# Altium integrated library TI Interface Display.IntLib: 133 symbols (part 8 of 16)
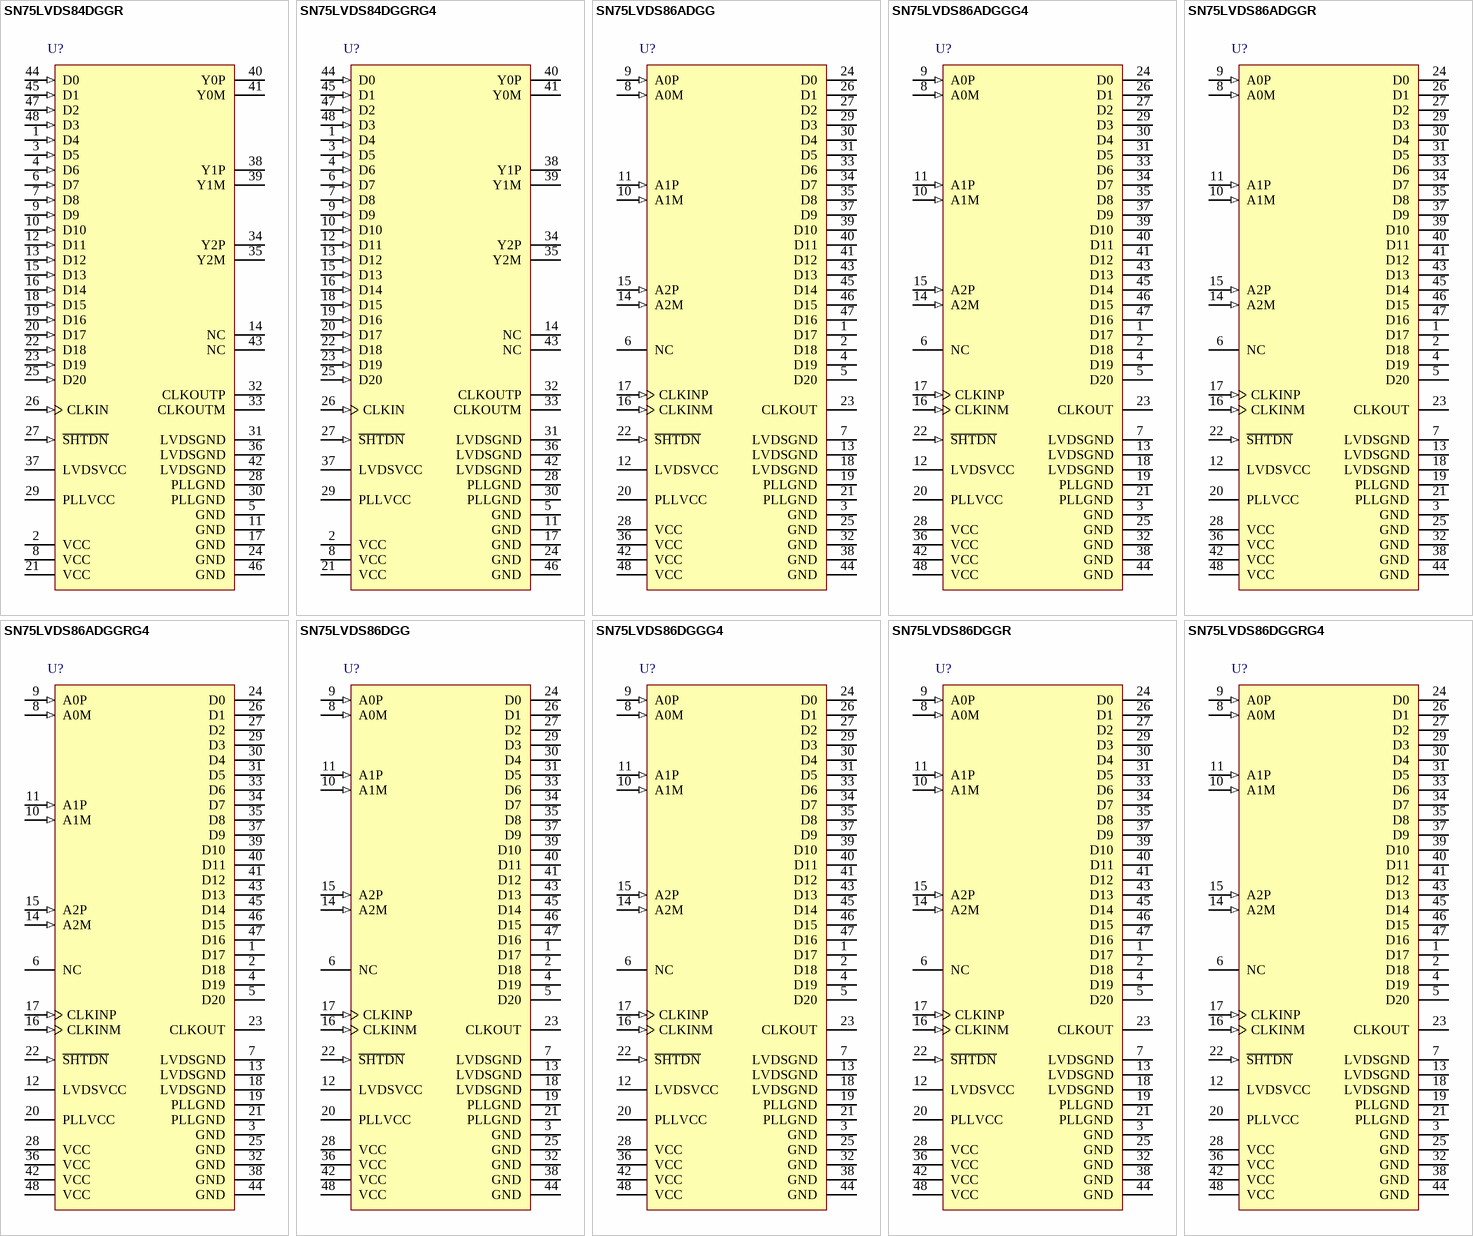
[diagram p21: symbols SN75LVDS84DGGR to SN75LVDS86DGGRG4]

## SN75LVDS84DGGR
designator U?
163 Mbps FlatLink™ Transmitter with 3 Transmitter Channels, 3.3 V, 0 to +70 degC, 48-pin TSSOP (DGG), Green (RoHS & no Sb/Br); Manufacturer: Texas Instruments; PartNumber: SN75LVDS84DGGR; Data Throughput(MB/s): 163; Driver (RL)(Ohms): 100; Driver tpd(ns): 14.2; Number of Parallel Inputs: 21; PLL Frequency(MHz): 31 - 68; Serial Data Transmitter Channels: 3; SubFamily: FlatLink (LVDS for LCD); Supply Voltage(s)(V): 3.3; Type of Line Circuit: LVDS; DatasheetVersion: SLLS270D; PackageVersion: revF, Dec-1997; PackageReference: DGG48; PackageDescription: 48-Pin Plastic Thin Shrink Small Outline Package 0.5 mm Pitch; Supplier 1: Digi-Key; Supplier Part Number 1: 296-6669-2-ND; Supplier 2: Mouser; Supplier Part Number 2: 595-SN75LVDS84DGGR; Eco-Plan: Green (RoHS & no Sb/Br); Mounting Technology: Surface Mount; Code_JEDEC: MO-153; ComponentLink1Description: Datasheet; ComponentLink1URL: http://www.ti.com/general/docs/lit/getliterature.tsp?genericPartNumber=SN75LVDS84&fileType=pdf; ComponentLink2Description: URL Link1; ComponentLink2URL: SamplesURL:http://www.ti.com/product/sn75lvds84#samples
footprint DGG48_N (TSSOP, 48-Leads, Body 12.5x6.1mm, Pitch 0.5mm, IPC Medium Density)
footprint DGG48_L (TSSOP, 48-Leads, Body 12.5x6.1mm, Pitch 0.5mm, IPC High Density)
footprint DGG48_M (TSSOP, 48-Leads, Body 12.5x6.1mm, Pitch 0.5mm, IPC Low Density)
pins: 1 D4 (in), 2 VCC (power), 3 D5 (in), 4 D6 (in), 5 GND (power), 6 D7 (in), 7 D8 (in), 8 VCC (power), 9 D9 (in), 10 D10 (in), 11 GND (power), 12 D11 (in), 13 D12 (in), 14 NC, 15 D13 (in), 16 D14 (in), 17 GND (power), 18 D15 (in), 19 D16 (in), 20 D17 (in), 21 VCC (power), 22 D18 (in), 23 D19 (in), 24 GND (power), 25 D20 (in), 26 CLKIN (in), 27 ~{SHTDN} (in), 28 PLLGND (power), 29 PLLVCC (power), 30 PLLGND (power), 31 LVDSGND (power), 32 CLKOUTP (hiz), 33 CLKOUTM (hiz), 34 Y2P (hiz), 35 Y2M (hiz), 36 LVDSGND (power), 37 LVDSVCC (power), 38 Y1P (hiz), 39 Y1M (hiz), 40 Y0P (hiz), 41 Y0M (hiz), 42 LVDSGND (power), 43 NC, 44 D0 (in), 45 D1 (in), 46 GND (power), 47 D2 (in), 48 D3 (in)

## SN75LVDS84DGGRG4
designator U?
163 Mbps FlatLink™ Transmitter with 3 Transmitter Channels, 3.3 V, 0 to +70 degC, 48-pin TSSOP (DGG), Green (RoHS & no Sb/Br); Manufacturer: Texas Instruments; PartNumber: SN75LVDS84DGGRG4; Data Throughput(MB/s): 163; Driver (RL)(Ohms): 100; Driver tpd(ns): 14.2; Number of Parallel Inputs: 21; PLL Frequency(MHz): 31 - 68; Serial Data Transmitter Channels: 3; SubFamily: FlatLink (LVDS for LCD); Supply Voltage(s)(V): 3.3; Type of Line Circuit: LVDS; DatasheetVersion: SLLS270D; PackageVersion: revF, Dec-1997; PackageReference: DGG48; PackageDescription: 48-Pin Plastic Thin Shrink Small Outline Package 0.5 mm Pitch; Supplier 1: Digi-Key; Supplier Part Number 1: SN75LVDS84DGGRG4-ND; Supplier 2: Mouser; Supplier Part Number 2: 595-SN75LVDS84DGGRG4; Eco-Plan: Green (RoHS & no Sb/Br); Mounting Technology: Surface Mount; Code_JEDEC: MO-153; ComponentLink1Description: Datasheet; ComponentLink1URL: http://www.ti.com/general/docs/lit/getliterature.tsp?genericPartNumber=SN75LVDS84&fileType=pdf; ComponentLink2Description: URL Link1; ComponentLink2URL: SamplesURL:http://www.ti.com/product/sn75lvds84#samples
footprint DGG48_N (TSSOP, 48-Leads, Body 12.5x6.1mm, Pitch 0.5mm, IPC Medium Density)
footprint DGG48_L (TSSOP, 48-Leads, Body 12.5x6.1mm, Pitch 0.5mm, IPC High Density)
footprint DGG48_M (TSSOP, 48-Leads, Body 12.5x6.1mm, Pitch 0.5mm, IPC Low Density)
pins: 1 D4 (in), 2 VCC (power), 3 D5 (in), 4 D6 (in), 5 GND (power), 6 D7 (in), 7 D8 (in), 8 VCC (power), 9 D9 (in), 10 D10 (in), 11 GND (power), 12 D11 (in), 13 D12 (in), 14 NC, 15 D13 (in), 16 D14 (in), 17 GND (power), 18 D15 (in), 19 D16 (in), 20 D17 (in), 21 VCC (power), 22 D18 (in), 23 D19 (in), 24 GND (power), 25 D20 (in), 26 CLKIN (in), 27 ~{SHTDN} (in), 28 PLLGND (power), 29 PLLVCC (power), 30 PLLGND (power), 31 LVDSGND (power), 32 CLKOUTP (hiz), 33 CLKOUTM (hiz), 34 Y2P (hiz), 35 Y2M (hiz), 36 LVDSGND (power), 37 LVDSVCC (power), 38 Y1P (hiz), 39 Y1M (hiz), 40 Y0P (hiz), 41 Y0M (hiz), 42 LVDSGND (power), 43 NC, 44 D0 (in), 45 D1 (in), 46 GND (power), 47 D2 (in), 48 D3 (in)

## SN75LVDS86ADGG
designator U?
163 MB/s FlatLink™ Receiver with 3 Receiver Channels, 3.3 V, 48-pin TSSOP (DGG), Green (RoHS & no Sb/Br); Manufacturer: Texas Instruments; PartNumber: SN75LVDS86ADGG; Data Throughput(MB/s): 163; Number of Parallel Outputs: 21; PLL Frequency(MHz): 32 - 68; Receiver (Vth)(mV): 100; Receiver tpd(ns): 5; Serial Data Receiver Channels: 3; SubFamily: FlatLink (LVDS for LCD); Supply Voltage(s)(V): 3.3; Type of Line Circuit: LVDS; DatasheetVersion: SLLS318D; PackageVersion: revF, Dec-1997; PackageReference: DGG48; PackageDescription: 48-Pin Plastic Thin Shrink Small Outline Package 0.5 mm Pitch; Supplier 1: Digi-Key; Supplier Part Number 1: 296-1998-5-ND; Supplier 2: Farnell; Supplier Part Number 2: 1755242; Supplier 3: Newark; Supplier Part Number 3: 50R6828; Supplier 4: Newark; Supplier Part Number 4: 93B4923; Supplier 5: Mouser; Supplier Part Number 5: 595-SN75LVDS86ADGG; Eco-Plan: Green (RoHS & no Sb/Br); Mounting Technology: Surface Mount; Code_JEDEC: MO-153; ComponentLink1Description: Datasheet; ComponentLink1URL: http://www.ti.com/general/docs/lit/getliterature.tsp?genericPartNumber=SN75LVDS86A&fileType=pdf; ComponentLink2Description: URL Link1; ComponentLink2URL: SamplesURL:http://www.ti.com/product/sn75lvds86a#samples
footprint DGG48_N (TSSOP, 48-Leads, Body 12.5x6.1mm, Pitch 0.5mm, IPC Medium Density)
footprint DGG48_L (TSSOP, 48-Leads, Body 12.5x6.1mm, Pitch 0.5mm, IPC High Density)
footprint DGG48_M (TSSOP, 48-Leads, Body 12.5x6.1mm, Pitch 0.5mm, IPC Low Density)
pins: 1 D17 (hiz), 2 D18 (hiz), 3 GND (power), 4 D19 (hiz), 5 D20 (hiz), 6 NC, 7 LVDSGND (power), 8 A0M (in), 9 A0P (in), 10 A1M (in), 11 A1P (in), 12 LVDSVCC (power), 13 LVDSGND (power), 14 A2M (in), 15 A2P (in), 16 CLKINM (in), 17 CLKINP (in), 18 LVDSGND (power), 19 PLLGND (power), 20 PLLVCC (power), 21 PLLGND (power), 22 ~{SHTDN} (in), 23 CLKOUT (hiz), 24 D0 (hiz), 25 GND (power), 26 D1 (hiz), 27 D2 (hiz), 28 VCC (power), 29 D3 (hiz), 30 D4 (hiz), 31 D5 (hiz), 32 GND (power), 33 D6 (hiz), 34 D7 (hiz), 35 D8 (hiz), 36 VCC (power), 37 D9 (hiz), 38 GND (power), 39 D10 (hiz), 40 D11 (hiz), 41 D12 (hiz), 42 VCC (power), 43 D13 (hiz), 44 GND (power), 45 D14 (hiz), 46 D15 (hiz), 47 D16 (hiz), 48 VCC (power)

## SN75LVDS86ADGGG4
designator U?
163 MB/s FlatLink™ Receiver with 3 Receiver Channels, 3.3 V, 48-pin TSSOP (DGG), Green (RoHS & no Sb/Br); Manufacturer: Texas Instruments; PartNumber: SN75LVDS86ADGGG4; Data Throughput(MB/s): 163; Number of Parallel Outputs: 21; PLL Frequency(MHz): 32 - 68; Receiver (Vth)(mV): 100; Receiver tpd(ns): 5; Serial Data Receiver Channels: 3; SubFamily: FlatLink (LVDS for LCD); Supply Voltage(s)(V): 3.3; Type of Line Circuit: LVDS; DatasheetVersion: SLLS318D; PackageVersion: revF, Dec-1997; PackageReference: DGG48; PackageDescription: 48-Pin Plastic Thin Shrink Small Outline Package 0.5 mm Pitch; Supplier 1: Digi-Key; Supplier Part Number 1: SN75LVDS86ADGGG4-ND; Supplier 2: Newark; Supplier Part Number 2: 66K4301; Supplier 3: Mouser; Supplier Part Number 3: 595-SN75LVDS86ADGGG4; Eco-Plan: Green (RoHS & no Sb/Br); Mounting Technology: Surface Mount; Code_JEDEC: MO-153; ComponentLink1Description: Datasheet; ComponentLink1URL: http://www.ti.com/general/docs/lit/getliterature.tsp?genericPartNumber=SN75LVDS86A&fileType=pdf; ComponentLink2Description: URL Link1; ComponentLink2URL: SamplesURL:http://www.ti.com/product/sn75lvds86a#samples
footprint DGG48_N (TSSOP, 48-Leads, Body 12.5x6.1mm, Pitch 0.5mm, IPC Medium Density)
footprint DGG48_L (TSSOP, 48-Leads, Body 12.5x6.1mm, Pitch 0.5mm, IPC High Density)
footprint DGG48_M (TSSOP, 48-Leads, Body 12.5x6.1mm, Pitch 0.5mm, IPC Low Density)
pins: 1 D17 (hiz), 2 D18 (hiz), 3 GND (power), 4 D19 (hiz), 5 D20 (hiz), 6 NC, 7 LVDSGND (power), 8 A0M (in), 9 A0P (in), 10 A1M (in), 11 A1P (in), 12 LVDSVCC (power), 13 LVDSGND (power), 14 A2M (in), 15 A2P (in), 16 CLKINM (in), 17 CLKINP (in), 18 LVDSGND (power), 19 PLLGND (power), 20 PLLVCC (power), 21 PLLGND (power), 22 ~{SHTDN} (in), 23 CLKOUT (hiz), 24 D0 (hiz), 25 GND (power), 26 D1 (hiz), 27 D2 (hiz), 28 VCC (power), 29 D3 (hiz), 30 D4 (hiz), 31 D5 (hiz), 32 GND (power), 33 D6 (hiz), 34 D7 (hiz), 35 D8 (hiz), 36 VCC (power), 37 D9 (hiz), 38 GND (power), 39 D10 (hiz), 40 D11 (hiz), 41 D12 (hiz), 42 VCC (power), 43 D13 (hiz), 44 GND (power), 45 D14 (hiz), 46 D15 (hiz), 47 D16 (hiz), 48 VCC (power)

## SN75LVDS86ADGGR
designator U?
163 MB/s FlatLink™ Receiver with 3 Receiver Channels, 3.3 V, 48-pin TSSOP (DGG), Green (RoHS & no Sb/Br); Manufacturer: Texas Instruments; PartNumber: SN75LVDS86ADGGR; Data Throughput(MB/s): 163; Number of Parallel Outputs: 21; PLL Frequency(MHz): 32 - 68; Receiver (Vth)(mV): 100; Receiver tpd(ns): 5; Serial Data Receiver Channels: 3; SubFamily: FlatLink (LVDS for LCD); Supply Voltage(s)(V): 3.3; Type of Line Circuit: LVDS; DatasheetVersion: SLLS318D; PackageVersion: revF, Dec-1997; PackageReference: DGG48; PackageDescription: 48-Pin Plastic Thin Shrink Small Outline Package 0.5 mm Pitch; Supplier 1: Digi-Key; Supplier Part Number 1: 296-6671-2-ND; Supplier 2: Digi-Key; Supplier Part Number 2: 296-6671-1-ND; Supplier 3: Digi-Key; Supplier Part Number 3: 296-6671-6-ND; Supplier 4: Newark; Supplier Part Number 4: 76C5299; Supplier 5: Mouser; Supplier Part Number 5: 595-SN75LVDS86ADGGR; Eco-Plan: Green (RoHS & no Sb/Br); Mounting Technology: Surface Mount; Code_JEDEC: MO-153; ComponentLink1Description: Datasheet; ComponentLink1URL: http://www.ti.com/general/docs/lit/getliterature.tsp?genericPartNumber=SN75LVDS86A&fileType=pdf; ComponentLink2Description: URL Link1; ComponentLink2URL: SamplesURL:http://www.ti.com/product/sn75lvds86a#samples
footprint DGG48_N (TSSOP, 48-Leads, Body 12.5x6.1mm, Pitch 0.5mm, IPC Medium Density)
footprint DGG48_L (TSSOP, 48-Leads, Body 12.5x6.1mm, Pitch 0.5mm, IPC High Density)
footprint DGG48_M (TSSOP, 48-Leads, Body 12.5x6.1mm, Pitch 0.5mm, IPC Low Density)
pins: 1 D17 (hiz), 2 D18 (hiz), 3 GND (power), 4 D19 (hiz), 5 D20 (hiz), 6 NC, 7 LVDSGND (power), 8 A0M (in), 9 A0P (in), 10 A1M (in), 11 A1P (in), 12 LVDSVCC (power), 13 LVDSGND (power), 14 A2M (in), 15 A2P (in), 16 CLKINM (in), 17 CLKINP (in), 18 LVDSGND (power), 19 PLLGND (power), 20 PLLVCC (power), 21 PLLGND (power), 22 ~{SHTDN} (in), 23 CLKOUT (hiz), 24 D0 (hiz), 25 GND (power), 26 D1 (hiz), 27 D2 (hiz), 28 VCC (power), 29 D3 (hiz), 30 D4 (hiz), 31 D5 (hiz), 32 GND (power), 33 D6 (hiz), 34 D7 (hiz), 35 D8 (hiz), 36 VCC (power), 37 D9 (hiz), 38 GND (power), 39 D10 (hiz), 40 D11 (hiz), 41 D12 (hiz), 42 VCC (power), 43 D13 (hiz), 44 GND (power), 45 D14 (hiz), 46 D15 (hiz), 47 D16 (hiz), 48 VCC (power)

## SN75LVDS86ADGGRG4
designator U?
163 MB/s FlatLink™ Receiver with 3 Receiver Channels, 3.3 V, 48-pin TSSOP (DGG), Green (RoHS & no Sb/Br); Manufacturer: Texas Instruments; PartNumber: SN75LVDS86ADGGRG4; Data Throughput(MB/s): 163; Number of Parallel Outputs: 21; PLL Frequency(MHz): 32 - 68; Receiver (Vth)(mV): 100; Receiver tpd(ns): 5; Serial Data Receiver Channels: 3; SubFamily: FlatLink (LVDS for LCD); Supply Voltage(s)(V): 3.3; Type of Line Circuit: LVDS; DatasheetVersion: SLLS318D; PackageVersion: revF, Dec-1997; PackageReference: DGG48; PackageDescription: 48-Pin Plastic Thin Shrink Small Outline Package 0.5 mm Pitch; Supplier 1: Digi-Key; Supplier Part Number 1: SN75LVDS86ADGGRG4-ND; Supplier 2: Newark; Supplier Part Number 2: 67K8409; Supplier 3: Mouser; Supplier Part Number 3: 595-SN75LVDS86ADGGRG; Eco-Plan: Green (RoHS & no Sb/Br); Mounting Technology: Surface Mount; Code_JEDEC: MO-153; ComponentLink1Description: Datasheet; ComponentLink1URL: http://www.ti.com/general/docs/lit/getliterature.tsp?genericPartNumber=SN75LVDS86A&fileType=pdf; ComponentLink2Description: URL Link1; ComponentLink2URL: SamplesURL:http://www.ti.com/product/sn75lvds86a#samples
footprint DGG48_N (TSSOP, 48-Leads, Body 12.5x6.1mm, Pitch 0.5mm, IPC Medium Density)
footprint DGG48_L (TSSOP, 48-Leads, Body 12.5x6.1mm, Pitch 0.5mm, IPC High Density)
footprint DGG48_M (TSSOP, 48-Leads, Body 12.5x6.1mm, Pitch 0.5mm, IPC Low Density)
pins: 1 D17 (hiz), 2 D18 (hiz), 3 GND (power), 4 D19 (hiz), 5 D20 (hiz), 6 NC, 7 LVDSGND (power), 8 A0M (in), 9 A0P (in), 10 A1M (in), 11 A1P (in), 12 LVDSVCC (power), 13 LVDSGND (power), 14 A2M (in), 15 A2P (in), 16 CLKINM (in), 17 CLKINP (in), 18 LVDSGND (power), 19 PLLGND (power), 20 PLLVCC (power), 21 PLLGND (power), 22 ~{SHTDN} (in), 23 CLKOUT (hiz), 24 D0 (hiz), 25 GND (power), 26 D1 (hiz), 27 D2 (hiz), 28 VCC (power), 29 D3 (hiz), 30 D4 (hiz), 31 D5 (hiz), 32 GND (power), 33 D6 (hiz), 34 D7 (hiz), 35 D8 (hiz), 36 VCC (power), 37 D9 (hiz), 38 GND (power), 39 D10 (hiz), 40 D11 (hiz), 41 D12 (hiz), 42 VCC (power), 43 D13 (hiz), 44 GND (power), 45 D14 (hiz), 46 D15 (hiz), 47 D16 (hiz), 48 VCC (power)

## SN75LVDS86DGG
designator U?
163 MB/s FlatLink™ Receiver with 3 Receiver Channels, 3.3 V, 48-pin TSSOP (DGG), Green (RoHS & no Sb/Br); Manufacturer: Texas Instruments; PartNumber: SN75LVDS86DGG; Data Throughput(MB/s): 163; Number of Parallel Outputs: 21; PLL Frequency(MHz): 31 - 68; Receiver (Vth)(mV): 100; Receiver tpd(ns): 8.7; Serial Data Receiver Channels: 3; SubFamily: FlatLink (LVDS for LCD); Supply Voltage(s)(V): 3.3; Type of Line Circuit: LVDS; DatasheetVersion: SLLS268D; PackageVersion: revF, Dec-1997; PackageReference: DGG48; PackageDescription: 48-Pin Plastic Thin Shrink Small Outline Package 0.5 mm Pitch; Supplier 1: Digi-Key; Supplier Part Number 1: 296-6672-5-ND; Supplier 2: Mouser; Supplier Part Number 2: 595-SN75LVDS86DGG; Eco-Plan: Green (RoHS & no Sb/Br); Mounting Technology: Surface Mount; Code_JEDEC: MO-153; ComponentLink1Description: Datasheet; ComponentLink1URL: http://www.ti.com/general/docs/lit/getliterature.tsp?genericPartNumber=SN75LVDS86&fileType=pdf; ComponentLink2Description: URL Link1; ComponentLink2URL: SamplesURL:http://www.ti.com/product/sn75lvds86#samples
footprint DGG48_N (TSSOP, 48-Leads, Body 12.5x6.1mm, Pitch 0.5mm, IPC Medium Density)
footprint DGG48_L (TSSOP, 48-Leads, Body 12.5x6.1mm, Pitch 0.5mm, IPC High Density)
footprint DGG48_M (TSSOP, 48-Leads, Body 12.5x6.1mm, Pitch 0.5mm, IPC Low Density)
pins: 1 D17 (hiz), 2 D18 (hiz), 3 GND (power), 4 D19 (hiz), 5 D20 (hiz), 6 NC, 7 LVDSGND (power), 8 A0M (in), 9 A0P (in), 10 A1M (in), 11 A1P (in), 12 LVDSVCC (power), 13 LVDSGND (power), 14 A2M (in), 15 A2P (in), 16 CLKINM (in), 17 CLKINP (in), 18 LVDSGND (power), 19 PLLGND (power), 20 PLLVCC (power), 21 PLLGND (power), 22 ~{SHTDN} (in), 23 CLKOUT (hiz), 24 D0 (hiz), 25 GND (power), 26 D1 (hiz), 27 D2 (hiz), 28 VCC (power), 29 D3 (hiz), 30 D4 (hiz), 31 D5 (hiz), 32 GND (power), 33 D6 (hiz), 34 D7 (hiz), 35 D8 (hiz), 36 VCC (power), 37 D9 (hiz), 38 GND (power), 39 D10 (hiz), 40 D11 (hiz), 41 D12 (hiz), 42 VCC (power), 43 D13 (hiz), 44 GND (power), 45 D14 (hiz), 46 D15 (hiz), 47 D16 (hiz), 48 VCC (power)

## SN75LVDS86DGGG4
designator U?
163 MB/s FlatLink™ Receiver with 3 Receiver Channels, 3.3 V, 48-pin TSSOP (DGG), Green (RoHS & no Sb/Br); Manufacturer: Texas Instruments; PartNumber: SN75LVDS86DGGG4; Data Throughput(MB/s): 163; Number of Parallel Outputs: 21; PLL Frequency(MHz): 31 - 68; Receiver (Vth)(mV): 100; Receiver tpd(ns): 8.7; Serial Data Receiver Channels: 3; SubFamily: FlatLink (LVDS for LCD); Supply Voltage(s)(V): 3.3; Type of Line Circuit: LVDS; DatasheetVersion: SLLS268D; PackageVersion: revF, Dec-1997; PackageReference: DGG48; PackageDescription: 48-Pin Plastic Thin Shrink Small Outline Package 0.5 mm Pitch; Supplier 1: Digi-Key; Supplier Part Number 1: SN75LVDS86DGGG4-ND; Supplier 2: Mouser; Supplier Part Number 2: 595-SN75LVDS86DGGG4; Eco-Plan: Green (RoHS & no Sb/Br); Mounting Technology: Surface Mount; Code_JEDEC: MO-153; ComponentLink1Description: Datasheet; ComponentLink1URL: http://www.ti.com/general/docs/lit/getliterature.tsp?genericPartNumber=SN75LVDS86&fileType=pdf; ComponentLink2Description: URL Link1; ComponentLink2URL: SamplesURL:http://www.ti.com/product/sn75lvds86#samples
footprint DGG48_N (TSSOP, 48-Leads, Body 12.5x6.1mm, Pitch 0.5mm, IPC Medium Density)
footprint DGG48_L (TSSOP, 48-Leads, Body 12.5x6.1mm, Pitch 0.5mm, IPC High Density)
footprint DGG48_M (TSSOP, 48-Leads, Body 12.5x6.1mm, Pitch 0.5mm, IPC Low Density)
pins: 1 D17 (hiz), 2 D18 (hiz), 3 GND (power), 4 D19 (hiz), 5 D20 (hiz), 6 NC, 7 LVDSGND (power), 8 A0M (in), 9 A0P (in), 10 A1M (in), 11 A1P (in), 12 LVDSVCC (power), 13 LVDSGND (power), 14 A2M (in), 15 A2P (in), 16 CLKINM (in), 17 CLKINP (in), 18 LVDSGND (power), 19 PLLGND (power), 20 PLLVCC (power), 21 PLLGND (power), 22 ~{SHTDN} (in), 23 CLKOUT (hiz), 24 D0 (hiz), 25 GND (power), 26 D1 (hiz), 27 D2 (hiz), 28 VCC (power), 29 D3 (hiz), 30 D4 (hiz), 31 D5 (hiz), 32 GND (power), 33 D6 (hiz), 34 D7 (hiz), 35 D8 (hiz), 36 VCC (power), 37 D9 (hiz), 38 GND (power), 39 D10 (hiz), 40 D11 (hiz), 41 D12 (hiz), 42 VCC (power), 43 D13 (hiz), 44 GND (power), 45 D14 (hiz), 46 D15 (hiz), 47 D16 (hiz), 48 VCC (power)

## SN75LVDS86DGGR
designator U?
163 MB/s FlatLink™ Receiver with 3 Receiver Channels, 3.3 V, 48-pin TSSOP (DGG), Green (RoHS & no Sb/Br); Manufacturer: Texas Instruments; PartNumber: SN75LVDS86DGGR; Data Throughput(MB/s): 163; Number of Parallel Outputs: 21; PLL Frequency(MHz): 31 - 68; Receiver (Vth)(mV): 100; Receiver tpd(ns): 8.7; Serial Data Receiver Channels: 3; SubFamily: FlatLink (LVDS for LCD); Supply Voltage(s)(V): 3.3; Type of Line Circuit: LVDS; DatasheetVersion: SLLS268D; PackageVersion: revF, Dec-1997; PackageReference: DGG48; PackageDescription: 48-Pin Plastic Thin Shrink Small Outline Package 0.5 mm Pitch; Supplier 1: Mouser; Supplier Part Number 1: 595-SN75LVDS86DGGR; Eco-Plan: Green (RoHS & no Sb/Br); Mounting Technology: Surface Mount; Code_JEDEC: MO-153; ComponentLink1Description: Datasheet; ComponentLink1URL: http://www.ti.com/general/docs/lit/getliterature.tsp?genericPartNumber=SN75LVDS86&fileType=pdf; ComponentLink2Description: URL Link1; ComponentLink2URL: SamplesURL:http://www.ti.com/product/sn75lvds86#samples
footprint DGG48_N (TSSOP, 48-Leads, Body 12.5x6.1mm, Pitch 0.5mm, IPC Medium Density)
footprint DGG48_L (TSSOP, 48-Leads, Body 12.5x6.1mm, Pitch 0.5mm, IPC High Density)
footprint DGG48_M (TSSOP, 48-Leads, Body 12.5x6.1mm, Pitch 0.5mm, IPC Low Density)
pins: 1 D17 (hiz), 2 D18 (hiz), 3 GND (power), 4 D19 (hiz), 5 D20 (hiz), 6 NC, 7 LVDSGND (power), 8 A0M (in), 9 A0P (in), 10 A1M (in), 11 A1P (in), 12 LVDSVCC (power), 13 LVDSGND (power), 14 A2M (in), 15 A2P (in), 16 CLKINM (in), 17 CLKINP (in), 18 LVDSGND (power), 19 PLLGND (power), 20 PLLVCC (power), 21 PLLGND (power), 22 ~{SHTDN} (in), 23 CLKOUT (hiz), 24 D0 (hiz), 25 GND (power), 26 D1 (hiz), 27 D2 (hiz), 28 VCC (power), 29 D3 (hiz), 30 D4 (hiz), 31 D5 (hiz), 32 GND (power), 33 D6 (hiz), 34 D7 (hiz), 35 D8 (hiz), 36 VCC (power), 37 D9 (hiz), 38 GND (power), 39 D10 (hiz), 40 D11 (hiz), 41 D12 (hiz), 42 VCC (power), 43 D13 (hiz), 44 GND (power), 45 D14 (hiz), 46 D15 (hiz), 47 D16 (hiz), 48 VCC (power)

## SN75LVDS86DGGRG4
designator U?
163 MB/s FlatLink™ Receiver with 3 Receiver Channels, 3.3 V, 48-pin TSSOP (DGG), Green (RoHS & no Sb/Br); Manufacturer: Texas Instruments; PartNumber: SN75LVDS86DGGRG4; Data Throughput(MB/s): 163; Number of Parallel Outputs: 21; PLL Frequency(MHz): 31 - 68; Receiver (Vth)(mV): 100; Receiver tpd(ns): 8.7; Serial Data Receiver Channels: 3; SubFamily: FlatLink (LVDS for LCD); Supply Voltage(s)(V): 3.3; Type of Line Circuit: LVDS; DatasheetVersion: SLLS268D; PackageVersion: revF, Dec-1997; PackageReference: DGG48; PackageDescription: 48-Pin Plastic Thin Shrink Small Outline Package 0.5 mm Pitch; Supplier 1: Digi-Key; Supplier Part Number 1: SN75LVDS86DGGRG4-ND; Supplier 2: Mouser; Supplier Part Number 2: 595-SN75LVDS86DGGRG4; Eco-Plan: Green (RoHS & no Sb/Br); Mounting Technology: Surface Mount; Code_JEDEC: MO-153; ComponentLink1Description: Datasheet; ComponentLink1URL: http://www.ti.com/general/docs/lit/getliterature.tsp?genericPartNumber=SN75LVDS86&fileType=pdf; ComponentLink2Description: URL Link1; ComponentLink2URL: SamplesURL:http://www.ti.com/product/sn75lvds86#samples
footprint DGG48_N (TSSOP, 48-Leads, Body 12.5x6.1mm, Pitch 0.5mm, IPC Medium Density)
footprint DGG48_L (TSSOP, 48-Leads, Body 12.5x6.1mm, Pitch 0.5mm, IPC High Density)
footprint DGG48_M (TSSOP, 48-Leads, Body 12.5x6.1mm, Pitch 0.5mm, IPC Low Density)
pins: 1 D17 (hiz), 2 D18 (hiz), 3 GND (power), 4 D19 (hiz), 5 D20 (hiz), 6 NC, 7 LVDSGND (power), 8 A0M (in), 9 A0P (in), 10 A1M (in), 11 A1P (in), 12 LVDSVCC (power), 13 LVDSGND (power), 14 A2M (in), 15 A2P (in), 16 CLKINM (in), 17 CLKINP (in), 18 LVDSGND (power), 19 PLLGND (power), 20 PLLVCC (power), 21 PLLGND (power), 22 ~{SHTDN} (in), 23 CLKOUT (hiz), 24 D0 (hiz), 25 GND (power), 26 D1 (hiz), 27 D2 (hiz), 28 VCC (power), 29 D3 (hiz), 30 D4 (hiz), 31 D5 (hiz), 32 GND (power), 33 D6 (hiz), 34 D7 (hiz), 35 D8 (hiz), 36 VCC (power), 37 D9 (hiz), 38 GND (power), 39 D10 (hiz), 40 D11 (hiz), 41 D12 (hiz), 42 VCC (power), 43 D13 (hiz), 44 GND (power), 45 D14 (hiz), 46 D15 (hiz), 47 D16 (hiz), 48 VCC (power)

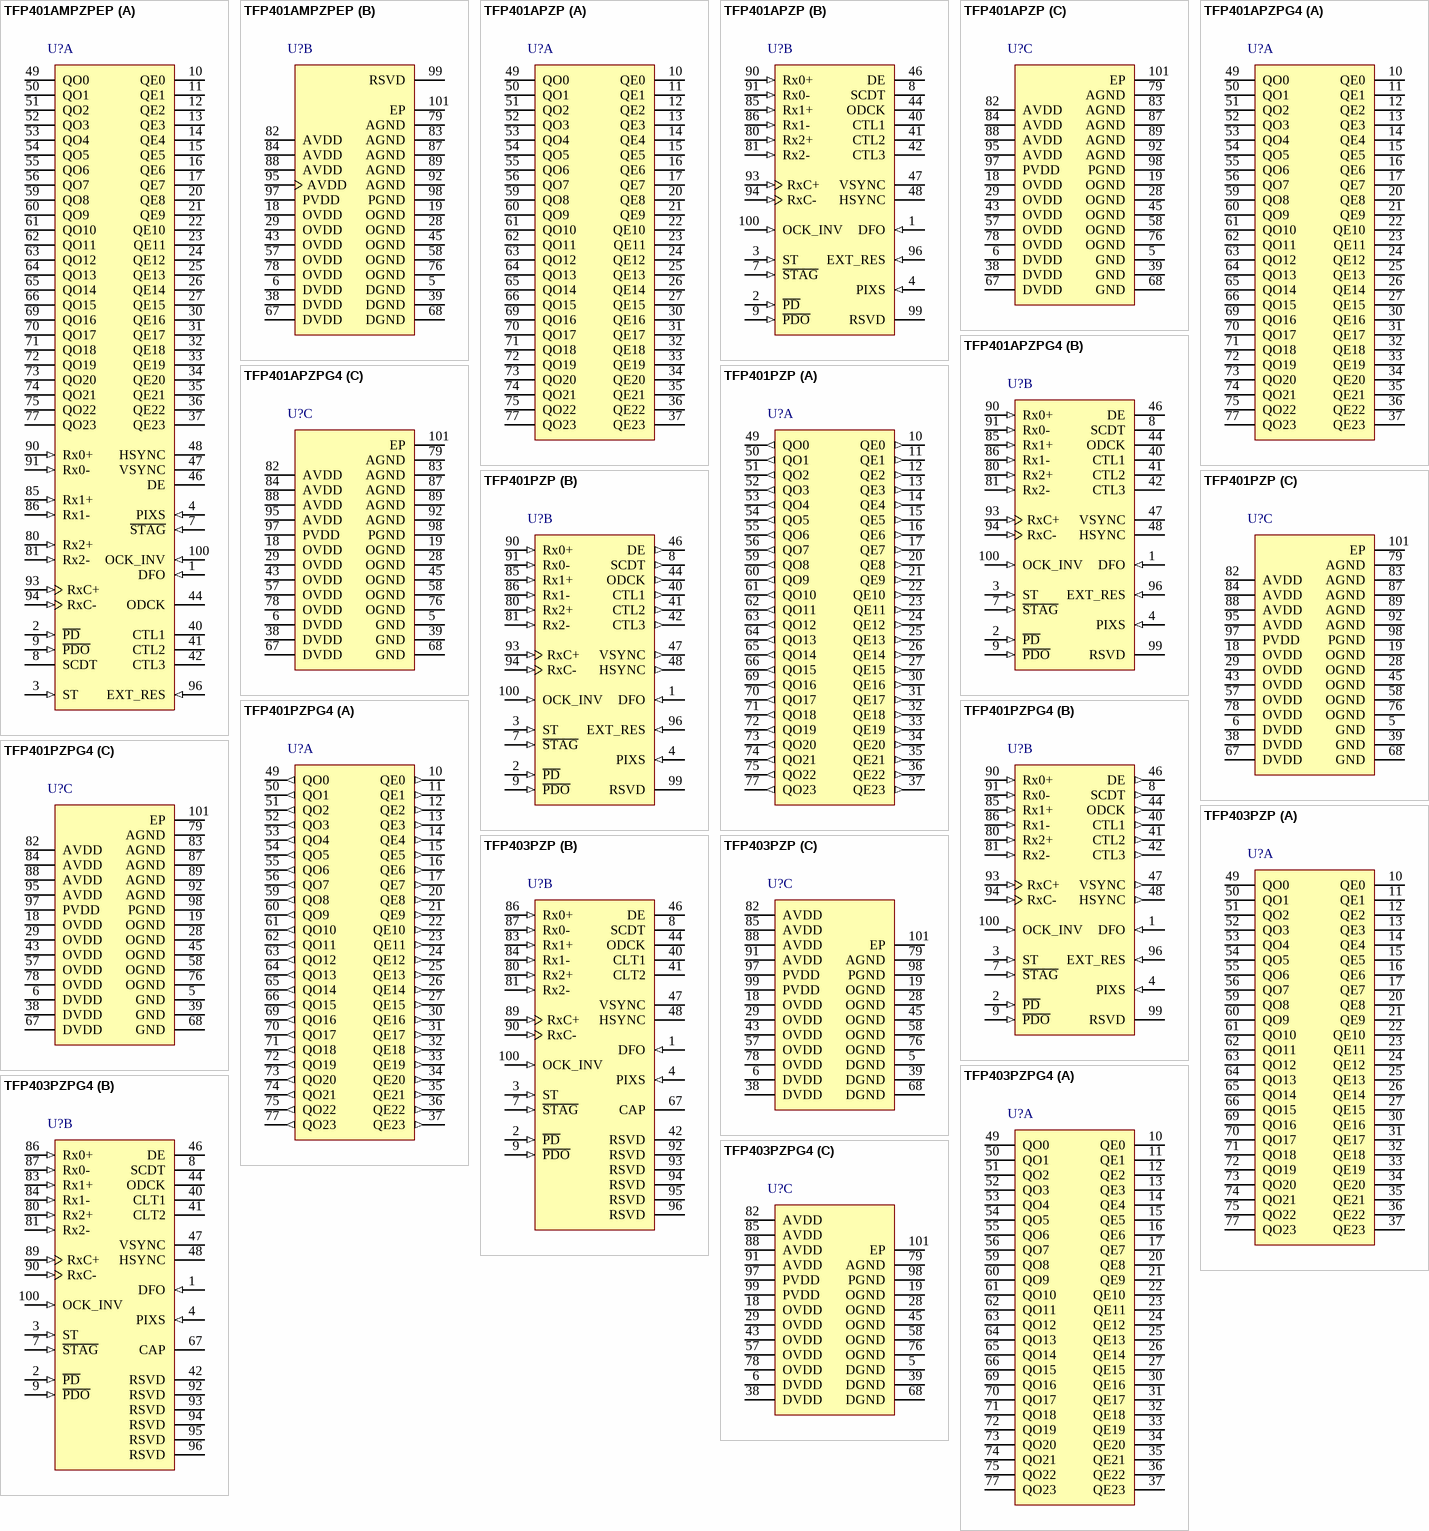
[diagram p9: symbols TFP401AMPZPEP to TFP403PZPG4]

## TFP401AMPZPEP
designator U?
Enhanced Product PanelBus DVI Receiver 165 MHz, HSYNC Fix with 3 Data Channels, 3.3 V, -55 to +125 degC, 100-pin HTQFP (PZP), Green (RoHS & no Sb/Br); Manufacturer: Texas Instruments; PartNumber: TFP401AMPZPEP; Number of Parallel Outputs: 48; PLL Frequency(MHz): 25 to 165; Rating: HiRel Enhanced Product; Receiver: TRUE; Serial Data Receiver Channels: 3; SubFamily: PanelBus (DVI); Supply Voltage(s)(V): 3.3; DatasheetVersion: SLDS160A; PackageVersion: revC, Sep-2011; PackageReference: PZP100-4700X4700TP; PackageDescription: 100-Pin Plastic Quad Flat Pack PowerPAD; Eco-Plan: Green (RoHS & no Sb/Br); Mounting Technology: Surface Mount; Code_JEDEC: MS-026; ComponentLink1Description: Datasheet; ComponentLink1URL: http://www.ti.com/general/docs/lit/getliterature.tsp?genericPartNumber=TFP401A-EP&fileType=pdf; ComponentLink2Description: URL Link1; ComponentLink2URL: SamplesURL:http://www.ti.com/product/tfp401a-ep#samples
footprint PZP100-4700X4700TP_N (Thin QFP, 100-Leads, Body 14x14mm, Pitch 0.5mm, Thermal Pad 5.2x5.2mm, IPC Medium Density)
footprint PZP100-4700X4700TP_L (Thin QFP, 100-Leads, Body 14x14mm, Pitch 0.5mm, Thermal Pad 5.2x5.2mm, IPC High Density)
footprint PZP100-4700X4700TP_M (Thin QFP, 100-Leads, Body 14x14mm, Pitch 0.5mm, Thermal Pad 5.2x5.2mm, IPC Low Density)
part A pins: 1 DFO (in) "Output clock data format - Controls the output clock (ODCK) format for either TFT or DSTNpanel support. For TFT support ODCK clock runs continuously. For DSTN support ODCK only clocks when DE is high, otherwise ODCK is held (See Datasheet)", 2 ~{PD} (in) "Power down - An active low signal that controls the TFP401A power-down state. During power down all output buffers are switched to a high impedance state. All analog circuits arepowered down and all inputs are disabled, (See Datasheet)", 3 ST (in) "Output drive strength select - Selects output drive strength for high or low current drive. (See dc specifications for IOH and IOL vs ST state).High : High drive strength Low : Low drive strength", 4 PIXS (in) "Pixel select - Selects between one or two pixels per clock output modes. During the 2-pixel/clock mode, both even pixels, QE[23:0], and odd pixels, QO[23:0], are output in tandem on a given clock cycle. During 1-pixel/clock, (See Datasheet)", 7 ~{STAG} (in) "Staggered pixel select - An active low signal used in the 2-pixel/clock pixel mode(PIXS = high). Time staggers the even and odd pixel outputs to reduce ground bounce. Normal operation outputs the odd and even pixels (See Datasheet)", 8 SCDT (hiz) "Sync detect - Output to signal when the link is active or inactive. The link is considered to be active when DE is actively switching. The TFP401A monitors the state DE to determine link activity. SCDT can be tied externally (See Datasheet)", 9 ~{PDO} (in) "Output drive power down - An active low signal that controls the power-down state of the output drivers. During output drive power down, the output drivers (except SCDT and CTL1)are driven to a high impedance state. When PDO (See Datasheet)", 10 QE0 (hiz) "Even green pixel output - Output for even and odd green pixels when in 1-pixel/clock mode.Output for even only green pixel when in 2-pixel/clock mode. Output data is synchronized to the output data clock, ODCK.", 11 QE1 (hiz) "Even green pixel output - Output for even and odd green pixels when in 1-pixel/clock mode.Output for even only green pixel when in 2-pixel/clock mode. Output data is synchronized to the output data clock, ODCK.", 12 QE2 (hiz) "Even green pixel output - Output for even and odd green pixels when in 1-pixel/clock mode.Output for even only green pixel when in 2-pixel/clock mode. Output data is synchronized to the output data clock, ODCK.", 13 QE3 (hiz) "Even green pixel output - Output for even and odd green pixels when in 1-pixel/clock mode.Output for even only green pixel when in 2-pixel/clock mode. Output data is synchronized to the output data clock, ODCK.", 14 QE4 (hiz) "Even green pixel output - Output for even and odd green pixels when in 1-pixel/clock mode.Output for even only green pixel when in 2-pixel/clock mode. Output data is synchronized to the output data clock, ODCK.", 15 QE5 (hiz) "Even green pixel output - Output for even and odd green pixels when in 1-pixel/clock mode.Output for even only green pixel when in 2-pixel/clock mode. Output data is synchronized to the output data clock, ODCK.", 16 QE6 (hiz) "Even green pixel output - Output for even and odd green pixels when in 1-pixel/clock mode.Output for even only green pixel when in 2-pixel/clock mode. Output data is synchronized to the output data clock, ODCK.", 17 QE7 (hiz) "Even green pixel output - Output for even and odd green pixels when in 1-pixel/clock mode.Output for even only green pixel when in 2-pixel/clock mode. Output data is synchronized to the output data clock, ODCK.", 20 QE8 (hiz) "Even green pixel output - Output for even and odd green pixels when in 1-pixel/clock mode.Output for even only green pixel when in 2-pixel/clock mode. Output data is synchronized to the output data clock, ODCK.", 21 QE9 (hiz) "Even green pixel output - Output for even and odd green pixels when in 1-pixel/clock mode.Output for even only green pixel when in 2-pixel/clock mode. Output data is synchronized to the output data clock, ODCK.", 22 QE10 (hiz) "Even green pixel output - Output for even and odd green pixels when in 1-pixel/clock mode.Output for even only green pixel when in 2-pixel/clock mode. Output data is synchronized to the output data clock, ODCK.", 23 QE11 (hiz) "Even green pixel output - Output for even and odd green pixels when in 1-pixel/clock mode.Output for even only green pixel when in 2-pixel/clock mode. Output data is synchronized to the output data clock, ODCK.", 24 QE12 (hiz) "Even green pixel output - Output for even and odd green pixels when in 1-pixel/clock mode.Output for even only green pixel when in 2-pixel/clock mode. Output data is synchronized to the output data clock, ODCK.", 25 QE13 (hiz) "Even green pixel output - Output for even and odd green pixels when in 1-pixel/clock mode.Output for even only green pixel when in 2-pixel/clock mode. Output data is synchronized to the output data clock, ODCK.", 26 QE14 (hiz) "Even green pixel output - Output for even and odd green pixels when in 1-pixel/clock mode.Output for even only green pixel when in 2-pixel/clock mode. Output data is synchronized to the output data clock, ODCK.", 27 QE15 (hiz) "Even green pixel output - Output for even and odd green pixels when in 1-pixel/clock mode.Output for even only green pixel when in 2-pixel/clock mode. Output data is synchronized to the output data clock, ODCK.", 30 QE16 (hiz) "Even green pixel output - Output for even and odd green pixels when in 1-pixel/clock mode.Output for even only green pixel when in 2-pixel/clock mode. Output data is synchronized to the output data clock, ODCK.", 31 QE17 (hiz) "Even green pixel output - Output for even and odd green pixels when in 1-pixel/clock mode.Output for even only green pixel when in 2-pixel/clock mode. Output data is synchronized to the output data clock, ODCK.", 32 QE18 (hiz) "Even green pixel output - Output for even and odd green pixels when in 1-pixel/clock mode.Output for even only green pixel when in 2-pixel/clock mode. Output data is synchronized to the output data clock, ODCK.", 33 QE19 (hiz) "Even green pixel output - Output for even and odd green pixels when in 1-pixel/clock mode.Output for even only green pixel when in 2-pixel/clock mode. Output data is synchronized to the output data clock, ODCK.", 34 QE20 (hiz) "Even green pixel output - Output for even and odd green pixels when in 1-pixel/clock mode.Output for even only green pixel when in 2-pixel/clock mode. Output data is synchronized to the output data clock, ODCK.", 35 QE21 (hiz) "Even green pixel output - Output for even and odd green pixels when in 1-pixel/clock mode.Output for even only green pixel when in 2-pixel/clock mode. Output data is synchronized to the output data clock, ODCK.", 36 QE22 (hiz) "Even green pixel output - Output for even and odd green pixels when in 1-pixel/clock mode.Output for even only green pixel when in 2-pixel/clock mode. Output data is synchronized to the output data clock, ODCK.", 37 QE23 (hiz) "Even green pixel output - Output for even and odd green pixels when in 1-pixel/clock mode.Output for even only green pixel when in 2-pixel/clock mode. Output data is synchronized to the output data clock, ODCK.", 40 CTL1 (hiz) "General-purpose control signals - Used for user defined control. CTL1 is not powered-down via PDO.", 41 CTL2 (hiz) "General-purpose control signals - Used for user defined control. CTL1 is not powered-down via PDO.", 42 CTL3 (hiz) "General-purpose control signals - Used for user defined control. CTL1 is not powered-down via PDO.", 44 ODCK (hiz) "Output data clock - Pixel clock. All pixel outputs QE[23:0] and QO[23:0] (if in 2-pixel/clock mode) along with DE, HSYNC, VSYNC and CTL[3:1] are synchronized to this clock.", 46 DE (hiz) "Output data enable - Used to indicate time of active video display versus non-active display or blank time. During blank, only HSYNC, VSYNC, and CTL1-3 are transmitted. During times  of active display, or non-blank, only (See Datasheet)", 47 VSYNC (hiz) "Vertical sync output", 48 HSYNC (hiz) "Horizontal sync output", 49 QO0 (hiz) "Odd blue pixel output - Output for odd only blue pixel when in 2-pixel/clock mode. Not used,and held low, when in 1-pixel/clock mode. Output data is synchronized to the output data clock, ODCK", 50 QO1 (hiz) "Odd blue pixel output - Output for odd only blue pixel when in 2-pixel/clock mode. Not used,and held low, when in 1-pixel/clock mode. Output data is synchronized to the output data clock, ODCK", 51 QO2 (hiz) "Odd blue pixel output - Output for odd only blue pixel when in 2-pixel/clock mode. Not used,and held low, when in 1-pixel/clock mode. Output data is synchronized to the output data clock, ODCK", 52 QO3 (hiz) "Odd blue pixel output - Output for odd only blue pixel when in 2-pixel/clock mode. Not used,and held low, when in 1-pixel/clock mode. Output data is synchronized to the output data clock, ODCK", 53 QO4 (hiz) "Odd blue pixel output - Output for odd only blue pixel when in 2-pixel/clock mode. Not used,and held low, when in 1-pixel/clock mode. Output data is synchronized to the output data clock, ODCK", 54 QO5 (hiz) "Odd blue pixel output - Output for odd only blue pixel when in 2-pixel/clock mode. Not used,and held low, when in 1-pixel/clock mode. Output data is synchronized to the output data clock, ODCK", 55 QO6 (hiz) "Odd blue pixel output - Output for odd only blue pixel when in 2-pixel/clock mode. Not used,and held low, when in 1-pixel/clock mode. Output data is synchronized to the output data clock, ODCK", 56 QO7 (hiz) "Odd blue pixel output - Output for odd only blue pixel when in 2-pixel/clock mode. Not used,and held low, when in 1-pixel/clock mode. Output data is synchronized to the output data clock, ODCK", 59 QO8 (hiz) "Odd blue pixel output - Output for odd only blue pixel when in 2-pixel/clock mode. Not used,and held low, when in 1-pixel/clock mode. Output data is synchronized to the output data clock, ODCK", 60 QO9 (hiz) "Odd blue pixel output - Output for odd only blue pixel when in 2-pixel/clock mode. Not used,and held low, when in 1-pixel/clock mode. Output data is synchronized to the output data clock, ODCK", 61 QO10 (hiz) "Odd blue pixel output - Output for odd only blue pixel when in 2-pixel/clock mode. Not used,and held low, when in 1-pixel/clock mode. Output data is synchronized to the output data clock, ODCK", 62 QO11 (hiz) "Odd blue pixel output - Output for odd only blue pixel when in 2-pixel/clock mode. Not used,and held low, when in 1-pixel/clock mode. Output data is synchronized to the output data clock, ODCK", 63 QO12 (hiz) "Odd blue pixel output - Output for odd only blue pixel when in 2-pixel/clock mode. Not used,and held low, when in 1-pixel/clock mode. Output data is synchronized to the output data clock, ODCK", 64 QO13 (hiz) "Odd blue pixel output - Output for odd only blue pixel when in 2-pixel/clock mode. Not used,and held low, when in 1-pixel/clock mode. Output data is synchronized to the output data clock, ODCK", 65 QO14 (hiz) "Odd blue pixel output - Output for odd only blue pixel when in 2-pixel/clock mode. Not used,and held low, when in 1-pixel/clock mode. Output data is synchronized to the output data clock, ODCK", 66 QO15 (hiz) "Odd blue pixel output - Output for odd only blue pixel when in 2-pixel/clock mode. Not used,and held low, when in 1-pixel/clock mode. Output data is synchronized to the output data clock, ODCK", 69 QO16 (hiz) "Odd blue pixel output - Output for odd only blue pixel when in 2-pixel/clock mode. Not used,and held low, when in 1-pixel/clock mode. Output data is synchronized to the output data clock, ODCK", 70 QO17 (hiz) "Odd blue pixel output - Output for odd only blue pixel when in 2-pixel/clock mode. Not used,and held low, when in 1-pixel/clock mode. Output data is synchronized to the output data clock, ODCK", 71 QO18 (hiz) "Odd blue pixel output - Output for odd only blue pixel when in 2-pixel/clock mode. Not used,and held low, when in 1-pixel/clock mode. Output data is synchronized to the output data clock, ODCK", 72 QO19 (hiz) "Odd blue pixel output - Output for odd only blue pixel when in 2-pixel/clock mode. Not used,and held low, when in 1-pixel/clock mode. Output data is synchronized to the output data clock, ODCK", 73 QO20 (hiz) "Odd blue pixel output - Output for odd only blue pixel when in 2-pixel/clock mode. Not used,and held low, when in 1-pixel/clock mode. Output data is synchronized to the output data clock, ODCK", 74 QO21 (hiz) "Odd blue pixel output - Output for odd only blue pixel when in 2-pixel/clock mode. Not used,and held low, when in 1-pixel/clock mode. Output data is synchronized to the output data clock, ODCK", 75 QO22 (hiz) "Odd blue pixel output - Output for odd only blue pixel when in 2-pixel/clock mode. Not used,and held low, when in 1-pixel/clock mode. Output data is synchronized to the output data clock, ODCK", 77 QO23 (hiz) "Odd blue pixel output - Output for odd only blue pixel when in 2-pixel/clock mode. Not used,and held low, when in 1-pixel/clock mode. Output data is synchronized to the output data clock, ODCK", 80 Rx2+ (in) "Channel-2 positive receiver input - Positive side of channel-2 TMDS low voltage signal differential input pair.Channel-2 receives red pixel data in active display and CTL2, CTL3 control signals in blank", 81 Rx2- (in) "Channel-2 negative receiver input - Negative side of channel-2 TMDS low voltage signal differential input pair.Channel-2 receives red pixel data in active display and CTL2, CTL3 control signals in blank", 85 Rx1+ (in) "Channel-1 positive receiver input - Positive side of channel-1 TMDS low voltage signal differential input pair.Channel-1 receives green-pixel data in active display and CTL1 control signals in blank.", 86 Rx1- (in) "Channel-1 negative receiver input - Negative side of channel-1 TMDS low voltage signal differential input pair.", 90 Rx0+ (in) "Channel-0 positive receiver input - Positive side of channel-0. TMDS low voltage signal differential input pair.Channel-0 receives blue pixel data in active display and HSYNC, VSYNC control signals in blank.", 91 Rx0- (in) "Channel-0 negative receiver input - Negative side of channel-0. TMDS low voltage signal differential input pair.", 93 RxC+ (in) "Clock positive receiver input - Positive side of reference clock. TMDS low voltage signal differential input pair.", 94 RxC- (in) "Clock negative receiver input - Negative side of reference clock. TMDS low voltage signal differential input pair.", 96 EXT_RES (in) "Internal impedance matching - The TFP401A is internally optimized for impedance matching at 50 W. An external resistor tied to this pin has no effect on device performance.", 100 OCK_INV (in) "ODCK Polarity - Selects ODCK edge on which pixel data (QE[23:0] and QO[23:0]) and control signals (HSYNC, VSYNC, DE, CTL1-3 ) are latched.Normal Mode:High : Latches output data on rising ODCK edge Low : Latches output data (See Datasheet)"
part B pins: 5 DGND (power) "Digital ground - Ground reference and current return for digital core", 6 DVDD (power) "Digital VDD - Power supply for digital core. Nominally 3.3 V", 18 OVDD (power) "Output driver VDD - Power supply for output drivers. Nominally 3.3 V", 19 OGND (power) "Output driver ground - Ground reference and current return for digital output drivers", 28 OGND (power) "Output driver ground - Ground reference and current return for digital output drivers", 29 OVDD (power) "Output driver VDD - Power supply for output drivers. Nominally 3.3 V", 38 DVDD (power) "Digital VDD - Power supply for digital core. Nominally 3.3 V", 39 DGND (power) "Digital ground - Ground reference and current return for digital core", 43 OVDD (power) "Output driver VDD - Power supply for output drivers. Nominally 3.3 V", 45 OGND (power) "Output driver ground - Ground reference and current return for digital output drivers", 57 OVDD (power) "Output driver VDD - Power supply for output drivers. Nominally 3.3 V", 58 OGND (power) "Output driver ground - Ground reference and current return for digital output drivers", 67 DVDD (power) "Digital VDD - Power supply for digital core. Nominally 3.3 V", 68 DGND (power) "Digital ground - Ground reference and current return for digital core", 76 OGND (power) "Output driver ground - Ground reference and current return for digital output drivers", 78 OVDD (power) "Output driver VDD - Power supply for output drivers. Nominally 3.3 V", 79 AGND (power) "Analog Ground - Ground reference and current return for analog circuitry.", 82 AVDD (power) "Analog VDD - Power supply for analog circuitry. Nominally 3.3 V", 83 AGND (power) "Analog Ground - Ground reference and current return for analog circuitry.", 84 AVDD (power) "Analog VDD - Power supply for analog circuitry. Nominally 3.3 V", 87 AGND (power) "Analog Ground - Ground reference and current return for analog circuitry.", 88 AVDD (power) "Analog VDD - Power supply for analog circuitry. Nominally 3.3 V", 89 AGND (power) "Analog Ground - Ground reference and current return for analog circuitry.", 92 AGND (power) "Analog Ground - Ground reference and current return for analog circuitry.", 95 AVDD (power) "Analog VDD - Power supply for analog circuitry. Nominally 3.3 V", 97 PVDD (power) "PLL VDD - Power supply for internal PLL", 98 PGND (power) "PLL GND - Ground reference and current return for internal PLL", 99 RSVD "Reserved. Must be tied high for normal operation.", 101 EP (power) "Exposed  Pad"